# Altium schematic symbol library PH1-14-UA.SchLib: 1 symbol
Pins are listed as number, name and electrical type; pins without a type are passive.

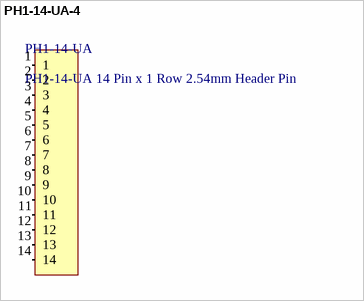
[diagram p0: symbol PH1-14-UA-4]

## PH1-14-UA-4
designator PH1-14-UA, comment PH1-14-UA 14 Pin x 1 Row 2.54mm Header Pin
Connector Header Through Hole 14 position 0.100" (2.54mm)
footprint New footprint 1
pins: 1 (in), 2 (in), 3 (in), 4 (in), 5 (in), 6 (in), 7 (in), 8 (in), 9 (in), 10 (in), 11 (in), 12 (in), 13 (in), 14 (in)